# Altium footprint library tdk.PcbLib: 1 footprints
Each footprint in its own frame and in the unit in brackets; x right, y up, seen from the top. Pads: shape width x height; smd on the part's side, far side on the other; paste and mask are expansions set on the pad; w line width, h text height; cw(c..) or ccw(c..) is an arc to the next point about the centre after c.
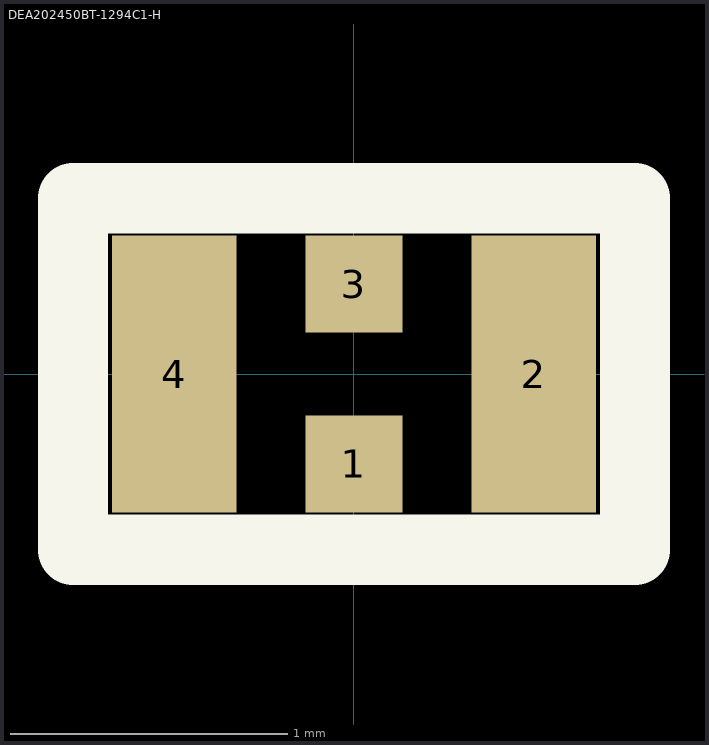
[diagram p0: the footprint, top view; thin cyan lines are the x and y axes]

## DEA202450BT-1294C1-H [mm]
height 0.8
pads (4):
  rect 0.35x0.35 smd: 1(0,-0.325) 3(0,0.325)
  rect 0.45x1 smd: 2(0.65,0) 4(-0.65,0)
Top Overlay:
  lines w0.254: -1.016,-0.635 1.016,-0.635 1.016,0.635 -1.016,0.635 -1.016,-0.635
3D body: height 0.8, standoff 0, extent -1,-0.512 1,0.513